# Altium footprint library CHK-I.PcbLib: 19 footprints (part 1 of 2)
Each footprint in its own frame and in the unit in brackets; x right, y up, seen from the top. Pads: shape width x height; smd on the part's side, far side on the other; paste and mask are expansions set on the pad; w line width, h text height; cw(c..) or ccw(c..) is an arc to the next point about the centre after c.
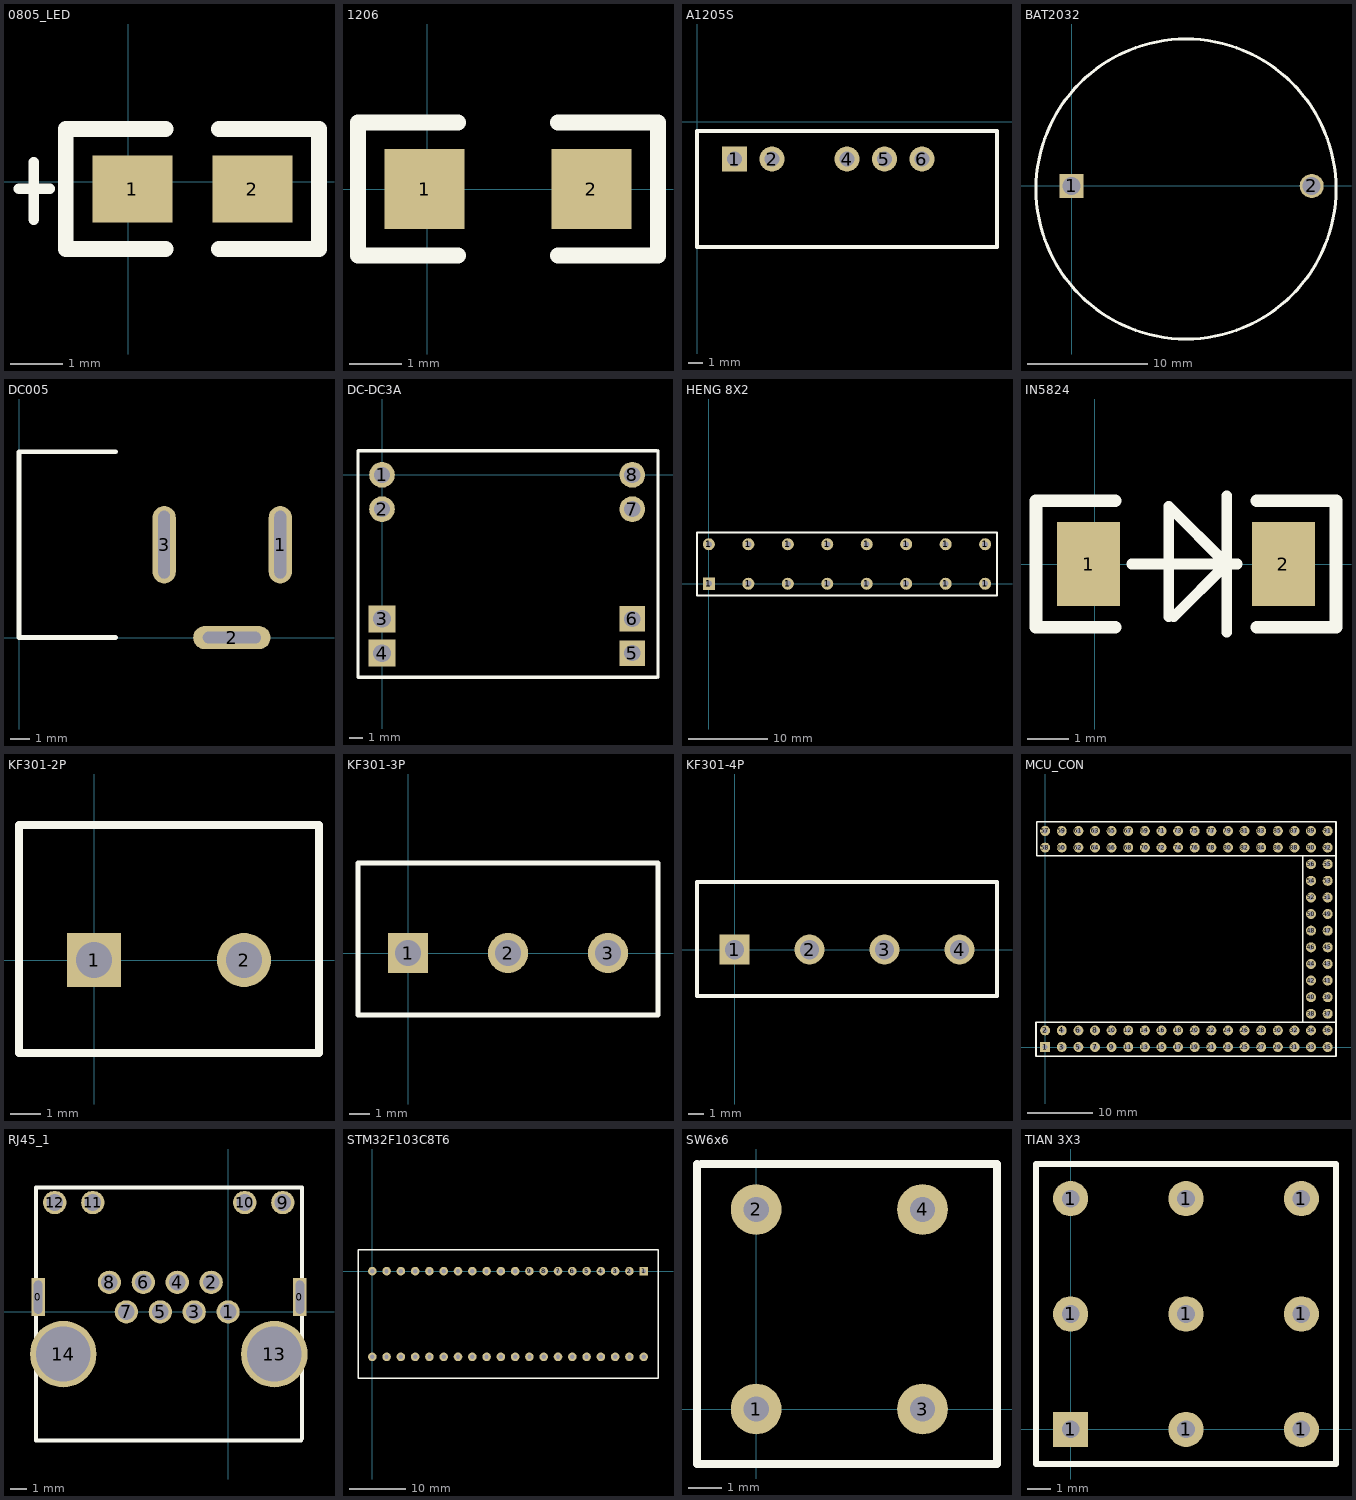
[diagram p0: the footprints below, top view; thin cyan lines are the x and y axes]

## 0805_LED [mil]
pads (2):
  rect 60x50 smd: 1(3.08,-5.36) 2(93.08,-5.36)
Top Overlay:
  lines w8: -82,-5.24 -59,-5.24 ; -71,-28.24 -71,14.76
  lines w12: 28.07,-50.36 -46.92,-50.36 -46.92,39.64 28.07,39.64 ; 68.08,-50.36 143.07,-50.36 143.07,39.64 68.08,39.64

## 1206 [mil]
pads (2):
  rect 60x60 smd: 1(-2,0) 2(123,0)
Top Overlay:
  lines w12: 23,-50 -52,-50 -52,50 23,50 ; 98,-50 173,-50 173,50 98,50

## A1205S [mm]
pads (5):
  rect 1.7x1.7 hole 1 square: 1(2.54,-2.54)
  round 1.7 hole 1: 2(5.08,-2.54) 4(10.16,-2.54) 5(12.7,-2.54) 6(15.24,-2.54)
Top Overlay:
  lines w0.254: 0,-8.509 0,-0.635 20.32,-0.635 20.32,-8.509 0,-8.509

## BAT2032 [mm]
pads (2):
  rect 2x2 hole 1.5: 1(0,0)
  round 2 hole 1.5: 2(20,0)
Top Overlay:
  circle w0.254: c9.525,-0.254 r12.498

## DC005 [mm]
pads (3):
  oval 1.2x4 hole 0.6 slot 3.5 at 90 deg: 1(13.5,4.8) 3(7.5,4.8)
  oval 4x1.2 hole 0.6 slot 3 at 0 deg: 2(11,0)
Top Overlay:
  lines w0.254: 5,0 0,0 0,9.6 5,9.6

## DC-DC3A [mm] "DC-DC5V3Amodule"
pads (8):
  round 1.9 hole 1.2: 1(0,0) 2(0,-2.54) 7(18.542,-2.54) 8(18.542,0)
  rect 2x2 hole 1.3: 3(0,-10.668) 4(0,-13.208)
  rect 1.9x1.9 hole 1.2: 5(18.542,-13.208) 6(18.542,-10.668)
Top Overlay:
  lines w0.254: 20.32,-14.986 -1.778,-14.986 -1.778,1.778 20.32,1.778 ; 20.447,-14.986 20.447,1.778

## HENG 8X2 [mil] "8 X 2 HENG"
pads (16):
  rect 60x60 hole 30: 1(0,0)
  round 60 hole 30: 1(0,196.85) 1(196.85,0) 1(196.85,196.85) 1(393.7,0) 1(393.7,196.85) 1(590.55,0) 1(590.55,196.85) 1(787.4,0) 1(787.4,196.85) 1(984.25,0) 1(984.25,196.85) 1(1181.1,0) 1(1181.1,196.85) 1(1377.95,0) 1(1377.95,196.85)
Top Overlay:
  lines w9.84: -59.06,255 -59.06,-59.06 1437.01,-59.06 1437.01,255 ; -59.06,255.91 1437.01,255.91

## IN5824 [mil]
pads (2):
  rect 60x80 smd: 1(-6,0) 2(179,0)
Top Overlay:
  lines w10: 35,0 135,0 ; 70,-50 70,55 125,0 75,-50 ; 125,-65 125,65
  lines w12: 19,-60 -56,-60 -56,60 19,60 ; 154,-60 229,-60 229,60 154,60
Bottom Overlay:
  lines w10: 70,-50 75,-50 ; 120,0 125,0

## KF301-2P [mm]
pads (2):
  rect 1.8x1.8 hole 1.2: 1(0,0)
  round 1.8 hole 1.2: 2(5,0)
Top Overlay:
  lines w0.254: -2.5,-3.1 -2.5,4.5 7.5,4.5 7.5,-3.1 -2.5,-3.1

## KF301-3P [mm]
pads (3):
  rect 2x2 hole 1.3: 1(0,0)
  round 2 hole 1.3: 2(5,0) 3(10,0)
Top Overlay:
  lines w0.254: -2.5,-3.1 -2.5,4.5 12.5,4.5 12.5,-3.1 -2.5,-3.1

## KF301-4P [mm]
pads (4):
  rect 2x2 hole 1.3: 1(0,0)
  round 2 hole 1.3: 2(5,0) 3(10,0) 4(15,0)
Top Overlay:
  lines w0.254: -2.5,-3.1 -2.5,4.5 17.5,4.5 17.5,-3.1 -2.5,-3.1

## MCU_CON [mil] "Connector for STM32F407VET6 mini Borad"
pads (92):
  rect 60x60 hole 30 square: 1(0,0)
  round 60 hole 30: 2(0,100) 3(100,0) 4(100,100) 5(200,0) 6(200,100) 7(300,0) 8(300,100) 9(400,0) 10(400,100) 11(500,0) 12(500,100) 13(600,0) 14(600,100) 15(700,0) 16(700,100) 17(800,0) 18(800,100) 19(900,0) 20(900,100) 21(1000,0) 22(1000,100) 23(1100,0) 24(1100,100) 25(1200,0) 26(1200,100) 27(1300,0) 28(1300,100) 29(1400,0) 30(1400,100) 31(1500,0) 32(1500,100) 33(1600,0) 34(1600,100) 35(1700,0) 36(1700,100) 37(1700,200) 38(1600,200) 39(1700,300) 40(1600,300) 41(1700,400) 42(1600,400) 43(1700,500) 44(1600,500) 45(1700,600) 46(1600,600) 47(1700,700) 48(1600,700) 49(1700,800) 50(1600,800) 51(1700,900) 52(1600,900) 53(1700,1000) 54(1600,1000) 55(1700,1100) 56(1600,1100) 57(0,1300) 58(0,1200) 59(100,1300) 60(100,1200) 61(200,1300) 62(200,1200) 63(300,1300) 64(300,1200) 65(400,1300) 66(400,1200) 67(500,1300) 68(500,1200) 69(600,1300) 70(600,1200) 71(700,1300) 72(700,1200) 73(800,1300) 74(800,1200) 75(900,1300) 76(900,1200) 77(1000,1300) 78(1000,1200) 79(1100,1300) 80(1100,1200) 81(1200,1300) 82(1200,1200) 83(1300,1300) 84(1300,1200) 85(1400,1300) 86(1400,1200) 87(1500,1300) 88(1500,1200) 89(1600,1300) 90(1600,1200) 91(1700,1300) 92(1700,1200)
Top Overlay:
  lines w10: 1550,150 1550,1150 ; 1750,150 -55,150 -55,-45 -55,-55 1750,-55 1750,1355 -50,1355 -50,1150 1750,1150

## RJ45_1 [mm]
pads (16):
  rect 0.8x2.3 hole 0.5 slot 2 at 90 deg: 0(-11.43,0.889) 0(4.318,0.889)
  round 1.4 hole 1: 1(0,0) 2(-1.02,1.78) 3(-2.04,0) 4(-3.06,1.78) 5(-4.08,0) 6(-5.1,1.78) 7(-6.12,0) 8(-7.14,1.78) 9(3.29,6.58) 10(1,6.58) 11(-8.14,6.58) 12(-10.43,6.58)
  round 4 hole 3.3: 13(2.78,-2.54) 14(-9.92,-2.54)
Top Overlay:
  lines w0.25: -11.557,-7.747 -11.557,7.493 4.445,7.493 ; -11.52,-7.74 4.38,-7.74 ; 4.445,-7.62 4.445,7.48

## STM32F103C8T6 [mil]
pads (40):
  rect 60x60 hole 30 square: 1(1900,0)
  round 60 hole 30: 2(1800,0) 3(1700,0) 4(1600,0) 5(1500,0) 6(1400,0) 7(1300,0) 8(1200,0) 9(1100,0) 10(1000,0) 11(900,0) 12(800,0) 13(700,0) 14(600,0) 15(500,0) 16(400,0) 17(300,0) 18(200,0) 19(100,0) 20(0,0) 21(1900,-600) 22(1800,-600) 23(1700,-600) 24(1600,-600) 25(1500,-600) 26(1400,-600) 27(1300,-600) 28(1200,-600) 29(1100,-600) 30(1000,-600) 31(900,-600) 32(800,-600) 33(700,-600) 34(600,-600) 35(500,-600) 36(400,-600) 37(300,-600) 38(200,-600) 39(100,-600) 40(0,-600)
Top Overlay:
  lines w10: -100,-750 -100,150 2000,150 2000,-750 -100,-750

## SW6x6 [mil]
height 1692.91
pads (4):
  round 60 hole 30: 1(0,0) 2(0,236.22) 3(196.85,0) 4(196.85,236.22)
Top Overlay:
  lines w10: -70,290 -70,-65 285,-65 285,290 -65,290

## TIAN 3X3 [mil] "3 X 3 TIAN"
pads (9):
  rect 60x60 hole 30: 1(0,0)
  round 60 hole 30: 1(0,196.85) 1(0,393.7) 1(196.85,0) 1(196.85,196.85) 1(196.85,393.7) 1(393.7,0) 1(393.7,196.85) 1(393.7,393.7)
Top Overlay:
  lines w9.84: -59.06,-59.06 -59.06,452.76 452.76,452.76 452.76,-59.06 -59.06,-59.06